# Altium schematic symbol library zener_diode.SchLib: 1 symbol
Pins are listed as number, name and electrical type; pins without a type are passive.

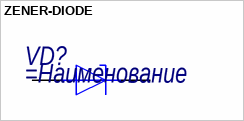
[diagram p0: symbol ZENER-DIODE]

## ZENER-DIODE
designator VD?
=Описание
pins: 1, 2